# Altium footprint library Barsotion_PcbLib.PcbLib: 66 footprints (part 5 of 5)
Each footprint in its own frame and in the unit in brackets; x right, y up, seen from the top. Pads: shape width x height; smd on the part's side, far side on the other; paste and mask are expansions set on the pad; w line width, h text height; cw(c..) or ccw(c..) is an arc to the next point about the centre after c.
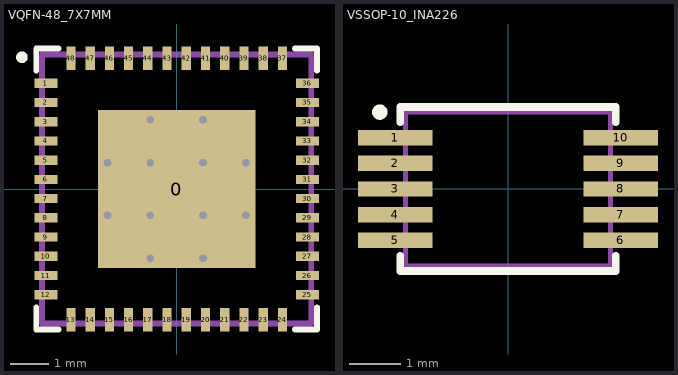
[diagram p4: the footprints below, top view; thin cyan lines are the x and y axes]

## VQFN-48_7X7MM [mm]
pads (49):
  rect 4.1x4.1 smd paste-2539.97 mask+0.07: 0(0,0)
  rect 0.6x0.24 smd mask+0.07: 1(-3.4,2.75) 2(-3.4,2.25) 3(-3.4,1.75) 4(-3.4,1.25) 5(-3.4,0.75) 6(-3.4,0.25) 7(-3.4,-0.25) 8(-3.4,-0.75) 9(-3.4,-1.25) 10(-3.4,-1.75) 11(-3.4,-2.25) 12(-3.4,-2.75) 25(3.4,-2.75) 26(3.4,-2.25) 27(3.4,-1.75) 28(3.4,-1.25) 29(3.4,-0.75) 30(3.4,-0.25) 31(3.4,0.25) 32(3.4,0.75) 33(3.4,1.25) 34(3.4,1.75) 35(3.4,2.25) 36(3.4,2.75)
  rect 0.24x0.6 smd mask+0.07: 13(-2.75,-3.4) 14(-2.25,-3.4) 15(-1.75,-3.4) 16(-1.25,-3.4) 17(-0.75,-3.4) 18(-0.25,-3.4) 19(0.25,-3.4) 20(0.75,-3.4) 21(1.25,-3.4) 22(1.75,-3.4) 23(2.25,-3.4) 24(2.75,-3.4) 37(2.75,3.4) 38(2.25,3.4) 39(1.75,3.4) 40(1.25,3.4) 41(0.75,3.4) 42(0.25,3.4) 43(-0.25,3.4) 44(-0.75,3.4) 45(-1.25,3.4) 46(-1.75,3.4) 47(-2.25,3.4) 48(-2.75,3.4)
via 1.8,-0.685 diameter 0.4 hole 0.2
via -1.8,0.685 diameter 0.4 hole 0.2
via -1.8,-0.685 diameter 0.4 hole 0.2
via 0.685,1.8 diameter 0.4 hole 0.2
via 0.685,-1.8 diameter 0.4 hole 0.2
via -0.685,1.8 diameter 0.4 hole 0.2
via -0.685,-1.8 diameter 0.4 hole 0.2
via -0.685,-0.685 diameter 0.4 hole 0.2
via -0.685,0.685 diameter 0.4 hole 0.2
via 1.8,0.685 diameter 0.4 hole 0.2
via 0.685,-0.685 diameter 0.4 hole 0.2
via 0.685,0.685 diameter 0.4 hole 0.2
Top Overlay:
  circle w0.15: c-4.025,3.425 r0.075
  lines w0.15: -3.65,-3.075 -3.65,-3.65 -3.075,-3.65 ; -3.65,3.075 -3.65,3.65 -3.075,3.65 ; 3.075,-3.65 3.65,-3.65 3.65,-3.075 ; 3.075,3.65 3.65,3.65 3.65,3.075
Top Paste:
  rectangle: 0.785,0.785 1.955,1.955
  rectangle: -1.955,0.785 -0.785,1.955
  rectangle: 0.785,-1.955 1.955,-0.785
  rectangle: -1.955,-1.955 -0.785,-0.785
  rectangle: -0.585,0.785 0.585,1.955
  rectangle: -0.585,-0.585 0.585,0.585
  rectangle: -0.585,-1.955 0.585,-0.785
  rectangle: -1.955,-0.585 -0.785,0.585
  rectangle: 0.785,-0.585 1.955,0.585
Mechanical 1:
  lines w0.15: -3.5,-3.5 3.5,-3.5 3.5,3.5 -3.5,3.5 -3.5,-3.5
3D body "QFN-48-1EP_7x7mm_P0.5mm_EP5.15x5.15mm.step": height 0.77, standoff 0, extent -3.5,-3.5 3.5,3.5

## VSSOP-10_INA226 [mm]
pads (10):
  rect 1.45x0.3 smd mask+0.05: 1(-2.2,1) 2(-2.2,0.5) 3(-2.2,0) 4(-2.2,-0.5) 5(-2.2,-1) 6(2.2,-1) 7(2.2,-0.5) 8(2.2,0) 9(2.2,0.5) 10(2.2,1)
Top Overlay:
  circle w0.15: c-2.5,1.5 r0.075
  lines w0.15: -2.1,-1.3 -2.1,-1.6 2.1,-1.6 2.1,-1.3 ; -2.1,1.3 -2.1,1.6 2.1,1.6 2.1,1.3
Mechanical 1:
  lines w0.1: -2,-1.5 -2,1.5 2,1.5 2,-1.5 -2,-1.5
3D body "VSSOP-10_3x3mm_P0.5mm.step": height 1.2, standoff 0, extent -2.45,-1.5 2.45,1.5